# EAGLE library part TL2230EEF140 (library switch-e-switch)
SWITCH PUSHBUTTON DPDT 0.1A 30V
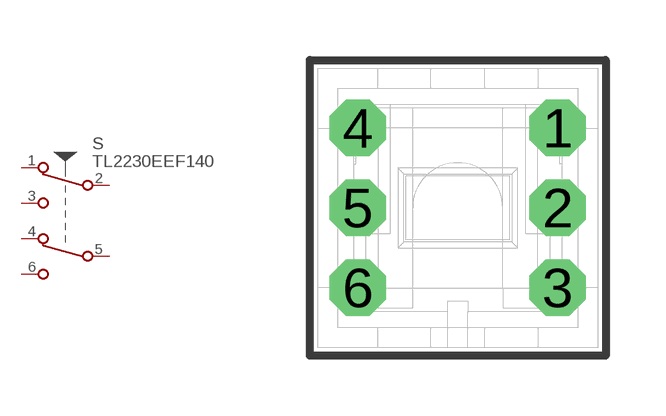
[diagram p18: symbol with the pads of TL2230EEF140; footprint TL2230EEF140]

Designator prefix S

## TL2230EEF140  [TL2230EEF140]
1  A-NC  pas
2  A-COM  pas
3  A-NO  pas
4  B-NC  pas
5  B-COM  pas
6  B-NO  pas

## Footprint TL2230EEF140 (pad centres in mm)
drill 0.813 pad 1.422 octagon: 1 2.5,2; 2 2.5,0; 3 2.5,-2; 4 -2.5,2; 5 -2.5,0; 6 -2.5,-2